# EAGLE library part 192GC00 (library repro)
TFT DISPLAY 192GC00 320x240 262K color
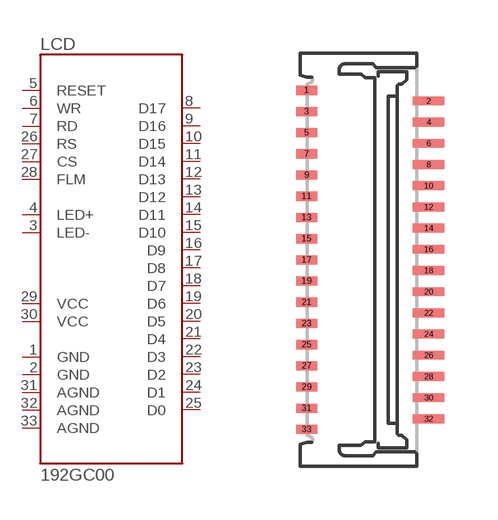
[diagram p0: symbol with the pads of 192GC00; footprint 192GC00]

Designator prefix LCD

## 192GC00  [192GC00]
1  GND  pwr
2  GND  pwr
3  LED-  pas
4  LED+  pas
5  RESET  in
6  WR  in
7  RD  in
8  D17
9  D16
10  D15
11  D14
12  D13
13  D12
14  D11
15  D10
16  D9
17  D8
18  D7
19  D6
20  D5
21  D4
22  D3
23  D2
24  D1
25  D0
26  RS  in
27  CS  in
28  FLM  out
29  VCC  pwr
30  VCC  pwr
31  AGND  pwr
32  AGND  pwr
33  AGND  pwr

## Footprint 192GC00 (pad centres in mm)
Low-profile Rotary Backlock Type (0.3 mm-pitch 33pin)
smd 0.6 x 0.26: 1 -1.8,5.7; 3 -1.8,5.1; 5 -1.8,4.5; 7 -1.8,3.9; 9 -1.8,3.3; 11 -1.8,2.7; 13 -1.8,2.1; 15 -1.8,1.5; 17 -1.8,0.9; 19 -1.8,0.3; 21 -1.8,-0.3; 23 -1.8,-0.9; 25 -1.8,-1.5; 27 -1.8,-2.1; 29 -1.8,-2.7; 31 -1.8,-3.3; 33 -1.8,-3.9
smd 0.9 x 0.25: 2 1.65,5.4; 4 1.65,4.8; 6 1.65,4.2; 8 1.65,3.6; 10 1.65,3; 12 1.65,2.4; 14 1.65,1.8; 16 1.65,1.2; 18 1.65,0.6; 20 1.65,0; 22 1.65,-0.6; 24 1.65,-1.2; 26 1.65,-1.8; 28 1.65,-2.4; 30 1.65,-3; 32 1.65,-3.6